# Altium schematic symbol library PLCC-84-AT.SchLib: 1 symbol
Pins are listed as number, name and electrical type; pins without a type are passive.

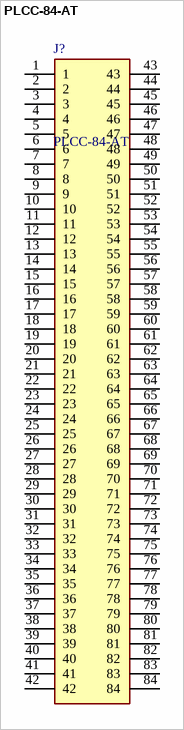
[diagram p0: symbol PLCC-84-AT]

## PLCC-84-AT
designator J?
84 (4 x 21) Pos PLCC Socket Tin Through Hole 55C ~ 105C ,1 A 30mOhm 0.050" (1.27mm); Manufacturer_Name: Adam Tech; Geometry.Height: 8.4836mm; Manufacturer_Part_Number: PLCC-84-AT; Mouser Part Number: 737-PLCC-84-AT; Mouser Price/Stock: https://www.mouser.co.uk/ProductDetail/Adam-Tech/PLCC-84-AT?qs=WZRMhwwaLl%252BQXivbVJuNIw%3D%3D; Arrow Part Number: PLCC-84-AT; Arrow Price/Stock: https://www.arrow.com/en/products/plcc-84-at/adam-tech?utm_currency=USD&region=nac; Datasheet Link: https://app.adam-tech.com/products/download/data_sheet/198227/plcc-84-at-data-sheet.pdf
footprint PLCC84AT
pins: 1, 2, 3, 4, 5, 6, 7, 8, 9, 10, 11, 12, 13, 14, 15, 16, 17, 18, 19, 20, 21, 22, 23, 24, 25, 26, 27, 28, 29, 30, 31, 32, 33, 34, 35, 36, 37, 38, 39, 40, 41, 42, 43, 44, 45, 46, 47, 48, 49, 50, 51, 52, 53, 54, 55, 56, 57, 58, 59, 60, 61, 62, 63, 64, 65, 66, 67, 68, 69, 70, 71, 72, 73, 74, 75, 76, 77, 78, 79, 80, 81, 82, 83, 84